# Altium footprint library con-bosch.PCBLIB: 1 footprints
Each footprint in its own frame and in the unit in brackets; x right, y up, seen from the top. Pads: shape width x height; smd on the part's side, far side on the other; paste and mask are expansions set on the pad; w line width, h text height; cw(c..) or ccw(c..) is an arc to the next point about the centre after c.
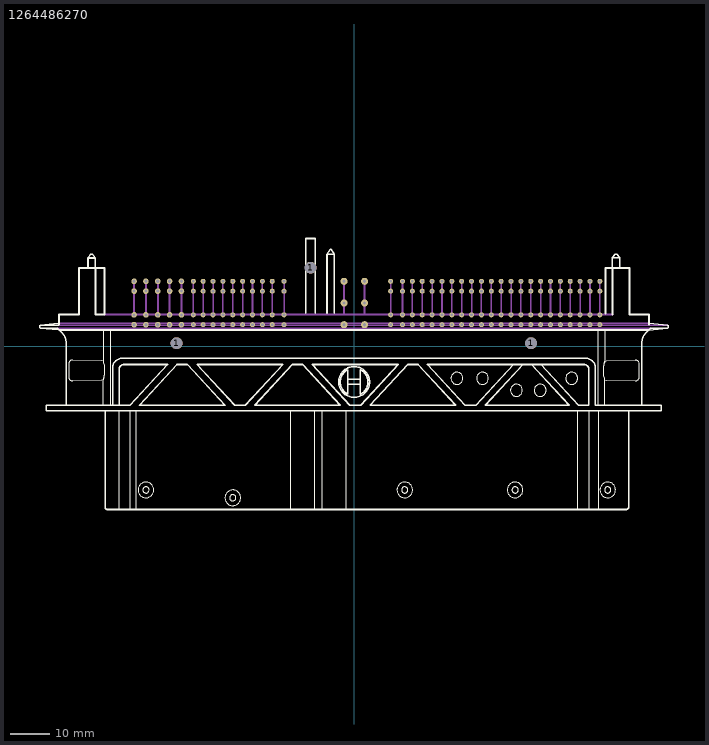
[diagram p0: the footprint, top view; thin cyan lines are the x and y axes]

## 1264486270 [mil]
pads (157):
  round 118.11 hole 118.11: 1(-1771.29,30.2) 1(-433.65,783.17) 1(1764.82,30.2)
  round 56 hole 31.5: A1(-2194.75,214.57) A2(-2076.64,214.57) A3(-1958.53,214.57) A4(-1840.42,214.57) A5(-1722.31,214.57) A16(-2194.75,312.99) A17(-2076.64,312.99) A18(-1958.53,312.99) A19(-1840.42,312.99) A20(-1722.31,312.99) A31(-2194.75,549.21) A32(-2076.64,549.21) A33(-1958.53,549.21) A34(-1840.42,549.21) A35(-1722.31,549.21) A46(-2194.75,647.64) A47(-2076.64,647.64) A48(-1958.53,647.64) A49(-1840.42,647.64) A50(-1722.31,647.64)
  round 50 hole 27.56: A6(-1604.2,214.57) A7(-1505.78,214.57) A8(-1407.35,214.57) A9(-1308.93,214.57) A10(-1210.5,214.57) A11(-1112.07,214.57) A12(-1013.65,214.57) A13(-915.22,214.57) A14(-816.8,214.57) A15(-698.69,214.57) A21(-1604.2,312.99) A22(-1505.78,312.99) A23(-1407.35,312.99) A24(-1308.93,312.99) A25(-1210.5,312.99) A26(-1112.07,312.99) A27(-1013.65,312.99) A28(-915.22,312.99) A29(-816.8,312.99) A30(-698.69,312.99) A36(-1604.2,549.21) A37(-1505.78,549.21) A38(-1407.35,549.21) A39(-1308.93,549.21) A40(-1210.5,549.21) A41(-1112.07,549.21) A42(-1013.65,549.21) A43(-915.22,549.21) A44(-816.8,549.21) A45(-698.69,549.21) A51(-1604.2,647.64) A52(-1505.78,647.64) A53(-1407.35,647.64) A54(-1308.93,647.64) A55(-1210.5,647.64) A56(-1112.07,647.64) A57(-1013.65,647.64) A58(-915.22,647.64) A59(-816.8,647.64) A60(-698.69,647.64) B7(364.3,214.57) B8(482.41,214.57) B9(580.84,214.57) B10(679.26,214.57) B11(777.69,214.57) B12(876.11,214.57) B13(974.54,214.57) B14(1072.96,214.57) B15(1171.39,214.57) B16(1269.81,214.57) B17(1368.24,214.57) B18(1466.67,214.57) B19(1565.09,214.57) B20(1663.52,214.57) B21(1761.94,214.57) B22(1860.37,214.57) B23(1958.79,214.57) B24(2057.22,214.57) B25(2155.64,214.57) B26(2254.07,214.57) B27(2352.49,214.57) B28(2450.92,214.57) B29(364.3,312.99) B30(482.41,312.99) B31(580.84,312.99) B32(679.26,312.99) B33(777.69,312.99) B34(876.11,312.99) B35(974.54,312.99) B36(1072.96,312.99) B37(1171.39,312.99) B38(1269.81,312.99) B39(1368.24,312.99) B40(1466.67,312.99) B41(1565.09,312.99) B42(1663.52,312.99) B43(1761.94,312.99) B44(1860.37,312.99) B45(1958.79,312.99) B46(2057.22,312.99) B47(2155.64,312.99) B48(2254.07,312.99) B49(2352.49,312.99) B50(2450.92,312.99) B51(364.3,549.21) B52(482.41,549.21) B53(580.84,549.21) B54(679.26,549.21) B55(777.69,549.21) B56(876.11,549.21) B57(974.54,549.21) B58(1072.96,549.21) B59(1171.39,549.21) B60(1269.81,549.21) B61(1368.24,549.21) B62(1466.67,549.21) B63(1565.09,549.21) B64(1663.52,549.21) B65(1761.94,549.21) B66(1860.37,549.21) B67(1958.79,549.21) B68(2057.22,549.21) B69(2155.64,549.21) B70(2254.07,549.21) B71(2352.49,549.21) B72(2450.92,549.21) B73(364.3,647.64) B74(482.41,647.64) B75(580.84,647.64) B76(679.26,647.64) B77(777.69,647.64) B78(876.11,647.64) B79(974.54,647.64) B80(1072.96,647.64) B81(1171.39,647.64) B82(1269.81,647.64) B83(1368.24,647.64) B84(1466.67,647.64) B85(1565.09,647.64) B86(1663.52,647.64) B87(1761.94,647.64) B88(1860.37,647.64) B89(1958.79,647.64) B90(2057.22,647.64) B91(2155.64,647.64) B92(2254.07,647.64) B93(2352.49,647.64) B94(2450.92,647.64)
  round 70 hole 31.5: B1(-100.26,214.57) B2(104.46,214.57) B3(-100.26,431.1) B4(104.46,431.1) B5(-100.26,647.64) B6(104.46,647.64)
Top Overlay:
  drawing of 180 lines, arcs and shapes, not listed
Mechanical 16:
  lines w15.75: -2958.89,179.56 2956.28,179.56 ; -2945.87,210.79 3125.44,210.79 ; -1604.13,327.36 -1604.13,647.64 ; -1505.71,327.36 -1505.71,647.64 ; -1407.28,327.36 -1407.28,647.64 ; -1308.86,327.36 -1308.86,647.64 ; -1210.43,327.36 -1210.43,647.64 ; -1112.01,327.36 -1112.01,647.64 ; -1013.58,327.36 -1013.58,647.64 ; -915.16,327.36 -915.16,647.64 ; -816.73,327.36 -816.73,647.64 ; -698.62,327.36 -698.62,647.64 ; 364.37,327.36 364.37,647.64 ; 482.48,327.36 482.48,647.64 ; 580.91,327.36 580.91,647.64 ; 679.33,327.36 679.33,647.64 ; 777.76,327.36 777.76,647.64 ; 876.18,327.36 876.18,647.64 ; 974.61,327.36 974.61,647.64 ; 1073.03,327.36 1073.03,647.64 ; 1171.46,327.36 1171.46,647.64 ; 1269.88,327.36 1269.88,647.64 ; 1368.31,327.36 1368.31,647.64 ; 1466.73,327.36 1466.73,647.64 ; 1565.16,327.36 1565.16,647.64 ; 1663.58,327.36 1663.58,647.64 ; 1762.01,327.36 1762.01,647.64 ; 1860.43,327.36 1860.43,647.64 ; 1958.86,327.36 1958.86,647.64 ; 2057.28,327.36 2057.28,647.64 ; 2155.71,327.36 2155.71,647.64 ; 2254.13,327.36 2254.13,647.64 ; 2352.56,327.36 2352.56,647.64 ; 2450.98,327.36 2450.98,647.64
  lines w19.69: -2938.07,229.01 2930.26,229.01 ; -2487.86,317.49 2576.34,317.49 ; -2194.69,327.36 -2194.69,647.64 ; -2076.57,327.36 -2076.57,647.64 ; -1958.46,327.36 -1958.46,647.64 ; -1840.35,327.36 -1840.35,647.64 ; -1722.24,327.36 -1722.24,647.64 ; -100.2,327.36 -100.2,647.64 ; 104.53,327.36 104.53,647.64